# Altium schematic symbol library ACS770.SchLib: 2 symbols
Pins are listed as number, name and electrical type; pins without a type are passive.

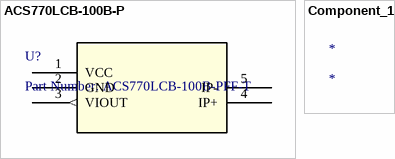
[diagram p0: symbols ACS770LCB-100B-P to Component_1]

## ACS770LCB-100B-P
designator U?, comment Part Number: ACS770LCB-100B-PFF-T
No Description Available; Built_By: EMA_Molly; Vendor: Allegro Microsystems Inc.; Copyright: Copyright (C) 2018 Accelerated Designs. All rights reserved; Manufacturer_Part_Number: ACS770LCB-100B-PFF-T; RefDes: RefDes; Type: DEV; Value: Value
footprint CB-5
footprint CB-5
pins: 1 VCC (power), 2 GND, 3 VIOUT (out), 4 IP+, 5 IP-

## Component_1
designator *